# Altium schematic symbol library SCH - CRYSTALS - ABRACON MEMS ASDM.SCHLIB: 1 symbol
Pins are listed as number, name and electrical type; pins without a type are passive.

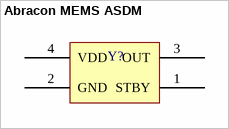
[diagram p0: symbol Abracon MEMS ASDM]

## Abracon MEMS ASDM
designator Y?
Pure Silicon Clock Oscillator
pins: 1 STBY, 2 GND, 3 OUT, 4 VDD